# EAGLE library part SI1143 (library iBionics)
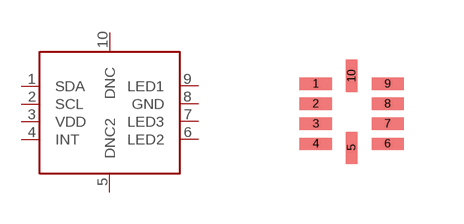
[diagram p21: symbol with the pads of QFN10; footprint QFN10]

Designator prefix -

## SI1143Q  [QFN10]
1  SDA
2  SCL
3  VDD
4  INT
5  DNC2
6  LED2
7  LED3
8  GND
9  LED1
10  DNC

## Footprint QFN10 (pad centres in mm)
smd 0.8 x 0.3: 1 -0.9,0.7; 2 -0.9,0.2; 3 -0.9,-0.3; 4 -0.9,-0.8; 6 0.9,-0.8; 7 0.9,-0.3; 8 0.9,0.2; 9 0.9,0.7
smd 0.3 x 0.8: 5 0,-0.9; 10 0,0.9